# Altium footprint library Resistors THD.PcbLib: 108 footprints (part 4 of 7)
Each footprint in its own frame and in the unit in brackets; x right, y up, seen from the top. Pads: shape width x height; smd on the part's side, far side on the other; paste and mask are expansions set on the pad; w line width, h text height; cw(c..) or ccw(c..) is an arc to the next point about the centre after c.
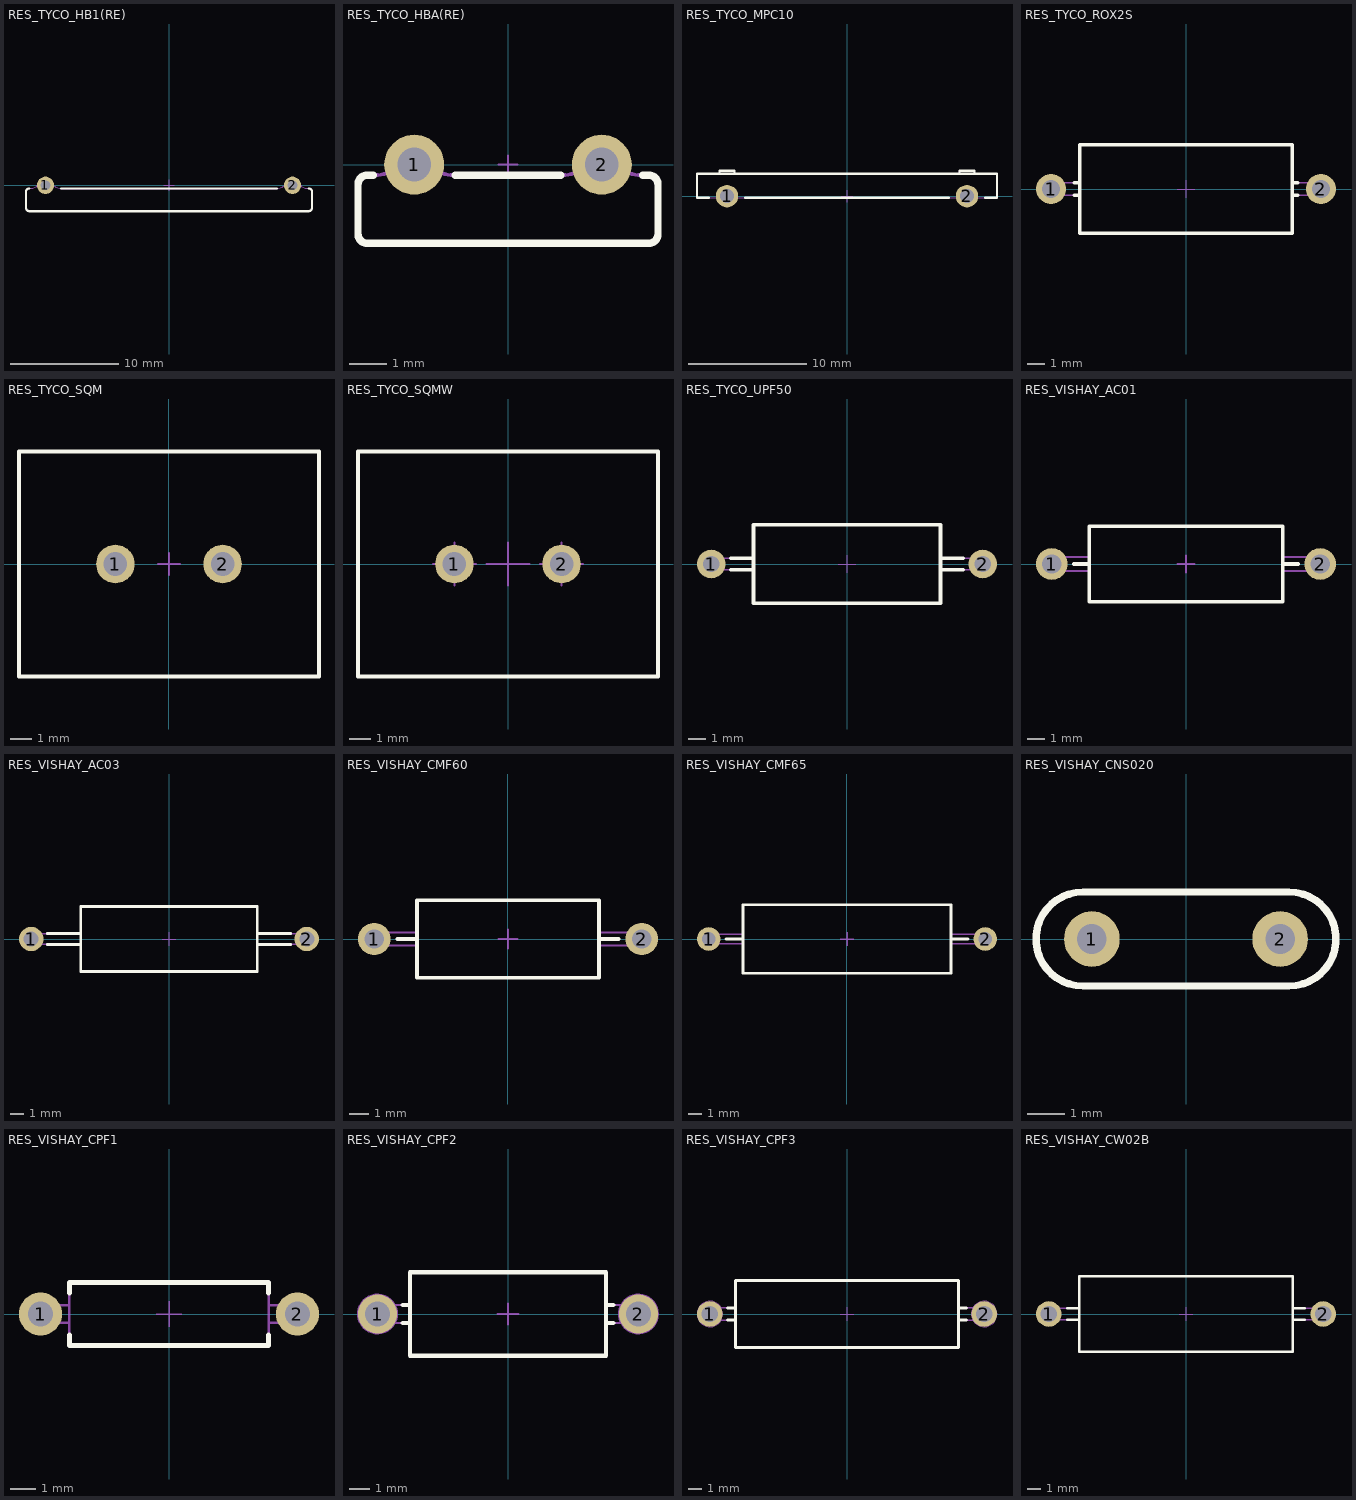
[diagram p3: the footprints below, top view; thin cyan lines are the x and y axes]

## RES_TYCO_HB1(RE) [mm] "Resistor, Radial, Leads spacing 22.9mm - Body 26.5mm X 3mm X 10.4mm H"
height 10.4
pads (2):
  round 1.6 hole 0.9: 1(-11.45,0) 2(11.45,0)
Top Overlay:
  lines w0.2: -12.95,-0.3 ccw(c-12.95,-0.6) -13.25,-0.6 -13.25,-2.1 ccw(c-12.95,-2.1) -12.95,-2.4 12.95,-2.4 ccw(c12.95,-2.1) 13.25,-2.1 13.25,-0.6 ccw(c12.95,-0.6) 12.95,-0.3 ; -10.011,-0.3 10.011,-0.3
Mechanical 8:
  lines w0.1: -11.95,0 -11.45,0 ; -11.45,-0.5 -11.45,0 ; -11.45,0.5 -11.45,0 ; -10.95,0 -11.45,0 ; -0.5,0 0,0 ; 0,-0.5 0,0 ; 0,0.5 0,0 ; 0.5,0 0,0 ; 10.95,0 11.45,0 ; 11.45,-0.5 11.45,0 ; 11.45,0.5 11.45,0 ; 11.95,0 11.45,0
Mechanical 14:
  lines w0.1: 11.983,0.259 ccw(c11.446,0.007) 10.91,0.263 cw(c10.011,0.7) 10.011,-0.3 -10.011,-0.3 cw(c-10.011,0.7) -10.91,0.263 ccw(c-11.45,0) -11.99,0.263 cw(c-12.893,0.704) -12.95,-0.3 ccw(c-12.95,-0.6) -13.25,-0.6 -13.25,-2.1 ccw(c-12.95,-2.1) -12.95,-2.4 12.95,-2.4 ccw(c12.95,-2.1) 13.25,-2.1 13.25,-0.6 ccw(c12.95,-0.6) 12.95,-0.3 cw(c12.893,0.704) 11.99,0.263
3D body "RES_TYCO_HB1(RE).stp": height 18.4, standoff -2.1, extent -13.25,-2.4 13.25,0.6

## RES_TYCO_HBA(RE) [mm] "Resistor, Radial, Leads spacing 5mm - Body 8mm X 2.6mm X 12.5mm H"
height 12.5
pads (2):
  round 1.6 hole 0.9: 1(-2.5,0) 2(2.5,0)
Top Overlay:
  lines w0.2: -3.59,-0.28 -3.75,-0.28 ccw(c-3.75,-0.53) -4,-0.53 -4,-1.85 ccw(c-3.75,-1.85) -3.75,-2.1 3.75,-2.1 ccw(c3.75,-1.85) 4,-1.85 4,-0.53 ccw(c3.75,-0.53) 3.75,-0.28 3.59,-0.28 ; -1.41,-0.28 1.41,-0.28
Mechanical 8:
  lines w0.05: -2.75,0 -2.5,0 ; -2.5,-0.25 -2.5,0 ; -2.5,0.25 -2.5,0 ; -2.25,0 -2.5,0 ; -0.25,0 0,0 ; 0,-0.25 0,0 ; 0,0.25 0,0 ; 0.25,0 0,0 ; 2.25,0 2.5,0 ; 2.5,-0.25 2.5,0 ; 2.5,0.25 2.5,0 ; 2.75,0 2.5,0
Mechanical 14:
  lines w0.1: -4,-1.85 ccw(c-3.75,-1.85) -3.75,-2.1 3.75,-2.1 ccw(c3.75,-1.85) 4,-1.85 4,-0.53 ccw(c3.75,-0.53) 3.75,-0.28 3.476,-0.28 cw(c3.476,0.22) 2.988,0.11 ccw(c2.5,0) 2.012,0.11 cw(c1.525,0.22) 1.524,-0.28 -1.525,-0.28 cw(c-1.525,0.22) -2.012,0.11 ccw(c-2.5,0) -2.988,0.11 cw(c-3.476,0.22) -3.476,-0.28 -3.75,-0.28 ccw(c-3.75,-0.53) -4,-0.53 -4,-1.85
3D body "RES_TYCO_HBA(RE).stp": height 12.5, standoff -3.1, extent -4,-2.1 4,0.5

## RES_TYCO_MPC10 [mm] "Resistor, Radial, Leads spacing 20.32mm - Body 25.4mm X 2.54mm X 27.68mm H"
height 27.68
pads (2):
  round 1.9 hole 1.2: 1(-10.16,0) 2(10.16,0)
Top Overlay:
  lines w0.2: -11.705,-0.127 -12.7,-0.127 -12.7,1.905 12.7,1.905 12.7,-0.127 11.705,-0.127 ; -10.795,1.905 -10.795,2.159 -9.525,2.159 -9.525,1.905 ; -8.615,-0.127 8.615,-0.127 ; 9.525,1.905 9.525,2.159 10.795,2.159 10.795,1.905
Mechanical 8:
  lines w0.1: -10.66,0 -10.16,0 ; -10.16,-0.5 -10.16,0 ; -10.16,0.5 -10.16,0 ; -9.66,0 -10.16,0 ; -0.5,0 0,0 ; 0,-0.5 0,0 ; 0,0.5 0,0 ; 0.5,0 0,0 ; 9.66,0 10.16,0 ; 10.16,-0.5 10.16,0 ; 10.16,0.5 10.16,0 ; 10.66,0 10.16,0
Mechanical 14:
  lines w0.1: -10.795,-0.127 -10.795,-0.381 -9.525,-0.381 -9.525,-0.127 ; -10.795,1.905 -10.795,2.159 -9.525,2.159 -9.525,1.905 ; 9.525,-0.127 9.525,-0.381 10.795,-0.381 10.795,-0.127 ; 9.525,1.905 9.525,2.159 10.795,2.159 10.795,1.905 ; -12.7,-0.127 12.7,-0.127 12.7,1.905 -12.7,1.905 -12.7,-0.127
3D body "RES_TYCO_MPC10.stp": height 27.68, standoff -3.17, extent -12.7,-0.381 12.7,2.159

## RES_TYCO_ROX2S [mm] "Resistor, Axial, Pad spacing 15.24 mm - Body Lengh 12mm X Body Diameter 5mm"
height 5
pads (2):
  round 1.7 hole 1: 1(-7.62,0) 2(7.62,0)
Top Overlay:
  lines w0.2: -6.316,-0.35 -6,-0.35 ; -6.316,0.35 -6,0.35 ; 6,-0.35 6.316,-0.35 ; 6,0.35 6.316,0.35 ; -6,-2.5 6,-2.5 6,2.5 -6,2.5 -6,-2.5
Mechanical 8:
  lines w0.05: -8.12,0 -7.62,0 ; -7.62,-0.5 -7.62,0 ; -7.62,0.5 -7.62,0 ; -7.12,0 -7.62,0 ; -0.5,0 0,0 ; 0,-0.5 0,0 ; 0,0.5 0,0 ; 0.5,0 0,0 ; 7.12,0 7.62,0 ; 7.62,-0.5 7.62,0 ; 7.62,0.5 7.62,0 ; 8.12,0 7.62,0
Mechanical 14:
  lines w0.1: -6,-0.35 -7.62,-0.35 cw(c-7.62,0) -7.62,0.35 -6,0.35 ; 6,-0.35 7.62,-0.35 ccw(c7.62,0) 7.62,0.35 6,0.35 ; -6,-2.5 6,-2.5 6,2.5 -6,2.5 -6,-2.5
3D body "RES_TYCO_ROX2S.stp": height 5, standoff -3.6, extent -7.97,-2.5 7.97,2.5

## RES_TYCO_SQM [mm] "Resistor, Radial, Leads spacing 5mm - Body 13mm X 9mm X 39mm H"
height 40
pads (2):
  round 1.8 hole 1.1: 1(-2.5,0) 2(2.5,0)
Top Overlay:
  lines w0.2: -7,-5.25 7,-5.25 7,5.25 -7,5.25 -7,-5.25
Mechanical 8:
  lines w0.1: -3,0 -2.5,0 ; -2.5,-0.5 -2.5,0 ; -2.5,0.5 -2.5,0 ; -2,0 -2.5,0 ; -0.5,0 0,0 ; 0,-0.5 0,0 ; 0,0.5 0,0 ; 0.5,0 0,0 ; 2,0 2.5,0 ; 2.5,-0.5 2.5,0 ; 2.5,0.5 2.5,0 ; 3,0 2.5,0
Mechanical 14:
  lines w0.1: -7,-5.25 7,-5.25 7,5.25 -7,5.25 -7,-5.25
3D body "RES_TYCO_SQM.stp": height 40, standoff -3.2, extent -7,-5.25 7,5.25

## RES_TYCO_SQMW [mm] "Resistor, Radial, Pad spacing 5mm - Body 14mm X 10.5mm X 40mm H"
height 40
pads (2):
  round 1.8 hole 1.1: 1(-2.5,0) 2(2.5,0)
Top Overlay:
  lines w0.2: -7,-5.25 -7,5.25 7,5.25 7,-5.25 -7,-5.25
Mechanical 8:
  lines w0.1: -3.5,0 -2.5,0 ; -2.5,-1 -2.5,0 ; -2.5,1 -2.5,0 ; -1.5,0 -2.5,0 ; -1,0 0,0 ; 0,-1 0,0 ; 0,1 0,0 ; 1,0 0,0 ; 1.5,0 2.5,0 ; 2.5,-1 2.5,0 ; 2.5,1 2.5,0 ; 3.5,0 2.5,0
Mechanical 14:
  lines w0.1: -7,-5.25 -7,5.25 7,5.25 7,-5.25 -7,-5.25
3D body "RES_TYCO_SQMW.stp": height 40, standoff -3.5, extent -7,-5.25 7,5.25

## RES_TYCO_UPF50 [mm] "Resistor, Axial, Pad spacing 15.24 mm - Body Lengh 10.5mm X Body Diameter 4.4mm"
height 4.4
pads (2):
  round 1.6 hole 0.9: 1(-7.62,0) 2(7.62,0)
Top Overlay:
  lines w0.2: -6.517,-0.325 -5.25,-0.325 ; -6.517,0.325 -5.25,0.325 ; 5.25,-0.325 6.517,-0.325 ; 5.25,0.325 6.517,0.325 ; -5.25,-2.2 -5.25,2.2 5.25,2.2 5.25,-2.2 -5.25,-2.2
Mechanical 8:
  lines w0.05: -8.12,0 -7.62,0 ; -7.62,-0.5 -7.62,0 ; -7.62,0.5 -7.62,0 ; -7.12,0 -7.62,0 ; -0.5,0 0,0 ; 0,-0.5 0,0 ; 0,0.5 0,0 ; 0.5,0 0,0 ; 7.12,0 7.62,0 ; 7.62,-0.5 7.62,0 ; 7.62,0.5 7.62,0 ; 8.12,0 7.62,0
Mechanical 14:
  lines w0.1: -5.25,-0.325 -7.62,-0.325 cw(c-7.62,0) -7.62,0.325 -5.25,0.325 ; 5.25,-0.325 7.62,-0.325 ccw(c7.62,0) 7.62,0.325 5.25,0.325 ; -5.25,-2.2 -5.25,2.2 5.25,2.2 5.25,-2.2 -5.25,-2.2
3D body "RES_TYCO_UPF50.stp": height 4.4, standoff -3.6, extent -7.945,-2.2 7.945,2.2

## RES_VISHAY_AC01 [mm] "Resistor, Axial, Pad spacing 15.24 mm - Body Lengh 11mm X Body Diameter 4.3mm"
height 4.3
pads (2):
  round 1.8 hole 1.1: 1(-7.62,0) 2(7.62,0)
Top Overlay:
  lines w0.2: -6.383,0 -5.5,0 ; 5.5,0 6.383,0 ; -5.5,-2.15 5.5,-2.15 5.5,2.15 -5.5,2.15 -5.5,-2.15
Mechanical 8:
  lines w0.1: -8.12,0 -7.62,0 ; -7.62,-0.5 -7.62,0 ; -7.62,0.5 -7.62,0 ; -7.12,0 -7.62,0 ; -0.5,0 0,0 ; 0,-0.5 0,0 ; 0,0.5 0,0 ; 0.5,0 0,0 ; 7.12,0 7.62,0 ; 7.62,-0.5 7.62,0 ; 7.62,0.5 7.62,0 ; 8.12,0 7.62,0
Mechanical 14:
  lines w0.1: -5.5,-0.4 -7.62,-0.4 cw(c-7.62,0) -7.62,0.4 -5.5,0.4 ; 5.5,-0.4 7.62,-0.4 ccw(c7.62,0) 7.62,0.4 5.5,0.4 ; -5.5,-2.15 5.5,-2.15 5.5,2.15 -5.5,2.15 -5.5,-2.15
3D body "RES_VISHAY_AC01.stp": height 4.3, standoff -3.8, extent -8.02,-2.15 8.02,2.15

## RES_VISHAY_AC03 [mm] "Resistor, Axial, Pad spacing 20.32mm - Body Lengh 13mm X Body Diameter 4.8mm"
height 4.8
pads (2):
  round 1.8 hole 1.1: 1(-10.16,0) 2(10.16,0)
Top Overlay:
  lines w0.2: -8.976,-0.4 -6.5,-0.4 ; -8.976,0.4 -6.5,0.4 ; 6.5,-0.4 8.976,-0.4 ; 6.5,0.4 8.976,0.4 ; -6.5,-2.4 6.5,-2.4 6.5,2.4 -6.5,2.4 -6.5,-2.4
Mechanical 8:
  lines w0.05: -10.66,0 -10.16,0 ; -10.16,-0.5 -10.16,0 ; -10.16,0.5 -10.16,0 ; -9.66,0 -10.16,0 ; -0.5,0 0,0 ; 0,-0.5 0,0 ; 0,0.5 0,0 ; 0.5,0 0,0 ; 9.66,0 10.16,0 ; 10.16,-0.5 10.16,0 ; 10.16,0.5 10.16,0 ; 10.66,0 10.16,0
Mechanical 14:
  lines w0.1: -6.5,-0.4 -10.16,-0.4 cw(c-10.16,0) -10.16,0.4 -6.5,0.4 ; 6.5,-0.4 10.16,-0.4 ccw(c10.16,0) 10.16,0.4 6.5,0.4 ; -6.5,-2.4 6.5,-2.4 6.5,2.4 -6.5,2.4 -6.5,-2.4
3D body "RES_VISHAY_AC03.stp": height 4.8, standoff -3.5, extent -10.56,-2.4 10.56,2.4

## RES_VISHAY_CMF60 [mm] "Resistor, Axial, Pad spacing 13 mm - Body Lengh 8.74mm X Body Diameter 3.68mm"
height 4.06
pads (2):
  round 1.7 hole 1: 1(-7,0) 2(7,0)
Top Overlay:
  lines w0.2: -5.799,0 -4.765,0 ; 4.765,0 5.799,0 ; -4.765,-2.03 4.765,-2.03 4.765,2.03 -4.765,2.03 -4.765,-2.03
Mechanical 8:
  lines w0.1: -7.5,0 -7,0 ; -7,-0.5 -7,0 ; -7,0.5 -7,0 ; -6.5,0 -7,0 ; -0.5,0 0,0 ; 0,-0.5 0,0 ; 0,0.5 0,0 ; 0.5,0 0,0 ; 6.5,0 7,0 ; 7,-0.5 7,0 ; 7,0.5 7,0 ; 7.5,0 7,0
Mechanical 14:
  lines w0.1: -4.765,-0.345 -7,-0.345 cw(c-7,0) -7,0.345 -4.765,0.345 ; 4.765,-0.345 7,-0.345 ccw(c7,0) 7,0.345 4.765,0.345 ; -4.765,-2.03 4.765,-2.03 4.765,2.03 -4.765,2.03 -4.765,-2.03
3D body "RES_VISHAY_CMF60.stp": height 4.06, standoff -3.6, extent -7.345,-2.019 7.345,2.019

## RES_VISHAY_CMF65 [mm] "Resistor, Axial, Pad spacing 13 mm - Body Lengh 14.27mm X Body Diameter 4.57mm"
height 4.06
pads (2):
  round 1.7 hole 1: 1(-10,0) 2(10,0)
Top Overlay:
  lines w0.2: -8.75,0 -7.53,0 ; 7.53,0 8.75,0 ; -7.53,-2.475 7.53,-2.475 7.53,2.475 -7.53,2.475 -7.53,-2.475
Mechanical 8:
  lines w0.1: -10.5,0 -10,0 ; -10,-0.5 -10,0 ; -10,0.5 -10,0 ; -9.5,0 -10,0 ; -0.5,0 0,0 ; 0,-0.5 0,0 ; 0,0.5 0,0 ; 0.5,0 0,0 ; 9.5,0 10,0 ; 10,-0.5 10,0 ; 10,0.5 10,0 ; 10.5,0 10,0
Mechanical 14:
  lines w0.1: -7.53,-0.345 -10,-0.345 cw(c-10,0) -10,0.345 -7.53,0.345 ; 7.53,-0.345 10,-0.345 ccw(c10,0) 10,0.345 7.53,0.345 ; -7.53,-2.475 7.53,-2.475 7.53,2.475 -7.53,2.475 -7.53,-2.475
3D body "RES_VISHAY_CMF65.stp": height 4.95, standoff -3.6, extent -10.345,-2.475 10.345,2.475

## RES_VISHAY_CNS020 [mm] "Resistor, Radial, Pad spacing 5.08mm - Body 8.1mm x 2.54mm"
height 6.62
pads (2):
  round 1.5 hole 0.8: 1(-2.54,0) 2(2.54,0)
Top Overlay:
  lines w0.2: -2.78,-1.27 cw(c-2.78,0) -2.78,1.27 2.78,1.27 cw(c2.78,0) 2.78,-1.27 -2.78,-1.27
Mechanical 14:
  lines w0.1: -2.78,-1.27 cw(c-2.78,0) -2.78,1.27 2.78,1.27 cw(c2.78,0) 2.78,-1.27 -2.78,-1.27
3D body "RES_VISHAY_CNS020.stp": height 6.62, standoff -3.6, extent -4.05,-1.27 4.05,1.27

## RES_VISHAY_CPF1 [mm] "Resistor, Axial, Pad spacing 10.16mm - Body Lengh 7.87mm X Body Diameter 2.5mm"
height 2.5
pads (2):
  round 1.7 hole 1: 1(-5.08,0) 2(5.08,0)
Top Overlay:
  lines w0.2: -3.935,-0.835 -3.935,-1.25 3.935,-1.25 3.935,-0.835 ; -3.935,0.835 -3.935,1.25 3.935,1.25 3.935,0.835
Mechanical 8:
  circle w0.05: c5.08,0 r0.5
  circle w0.05: c-5.08,0 r0.5
  lines w0.05: -5.58,0 -5.08,0 ; -5.08,-0.5 -5.08,0 ; -5.08,0.5 -5.08,0 ; -4.58,0 -5.08,0 ; -0.5,0 0,0 ; 0,-0.5 0,0 ; 0,0.5 0,0 ; 0.5,0 0,0 ; 4.58,0 5.08,0 ; 5.08,-0.5 5.08,0 ; 5.08,0.5 5.08,0 ; 5.58,0 5.08,0
Mechanical 14:
  lines w0.1: -3.935,-0.345 -5.08,-0.345 cw(c-5.08,0) -5.08,0.345 -3.935,0.345 ; 3.935,-0.345 5.08,-0.345 ccw(c5.08,0) 5.08,0.345 3.935,0.345 ; -3.935,-1.25 -3.935,1.25 3.935,1.25 3.935,-1.25 -3.935,-1.25
3D body "RES_VISHAY_CPF1.stp": height 2.5, standoff -3.6, extent -5.423,-1.25 5.423,1.25

## RES_VISHAY_CPF2 [mm] "Resistor, Axial, Pad spacing 12.7mm - Body Lengh 8.74mm X Body Diameter 3.68mm"
height 4.06
pads (2):
  round 1.9 hole 1.2: 1(-6.35,0) 2(6.35,0)
Top Overlay:
  lines w0.2: -5.123,-0.43 -4.765,-0.43 ; -5.123,0.43 -4.765,0.43 ; 4.765,-0.43 5.123,-0.43 ; 4.765,0.43 5.123,0.43 ; -4.765,-2.03 4.765,-2.03 4.765,2.03 -4.765,2.03 -4.765,-2.03
Mechanical 8:
  circle w0.1: c6.35,0 r0.6
  circle w0.1: c6.35,0 r0.95
  circle w0.1: c-6.35,0 r0.6
  circle w0.1: c-6.35,0 r0.95
  lines w0.1: -6.85,0 -6.35,0 ; -6.35,-0.5 -6.35,0 ; -6.35,0.5 -6.35,0 ; -5.85,0 -6.35,0 ; -0.5,0 0,0 ; 0,-0.5 0,0 ; 0,0.5 0,0 ; 0.5,0 0,0 ; 5.85,0 6.35,0 ; 6.35,-0.5 6.35,0 ; 6.35,0.5 6.35,0 ; 6.85,0 6.35,0
Mechanical 14:
  lines w0.1: -4.765,-0.43 -6.35,-0.43 cw(c-6.35,0) -6.35,0.43 -4.765,0.43 ; 4.765,-0.43 6.35,-0.43 ccw(c6.35,0) 6.35,0.43 4.765,0.43 ; -4.765,-2.03 4.765,-2.03 4.765,2.03 -4.765,2.03 -4.765,-2.03
3D body "RES_VISHAY_CPF2.stp": height 4.06, standoff -3.6, extent -6.779,-2.03 6.779,2.03

## RES_VISHAY_CPF3 [mm] "Resistor, Axial, Pad spacing 20.32mm - Body Lengh 16.51mm X Body Diameter 4.95mm"
height 4.95
pads (2):
  round 1.9 hole 1.2: 1(-10.15,0) 2(10.15,0)
Top Overlay:
  lines w0.2: -8.85,-0.45 -8.25,-0.45 ; -8.85,0.45 -8.25,0.45 ; 8.25,-0.45 8.85,-0.45 ; 8.25,0.45 8.85,0.45 ; -8.25,-2.475 8.25,-2.475 8.25,2.475 -8.25,2.475 -8.25,-2.475
Mechanical 8:
  circle w0.05: c-10.15,0 r0.95
  circle w0.05: c-10.15,0 r0.6
  circle w0.05: c10.15,0 r0.95
  circle w0.05: c10.15,0 r0.6
  lines w0.05: -10.65,0 -10.15,0 ; -10.15,-0.5 -10.15,0 ; -10.15,0.5 -10.15,0 ; -9.65,0 -10.15,0 ; -0.5,0 0,0 ; 0,-0.5 0,0 ; 0,0.5 0,0 ; 0.5,0 0,0 ; 9.65,0 10.15,0 ; 10.15,-0.5 10.15,0 ; 10.15,0.5 10.15,0 ; 10.65,0 10.15,0
Mechanical 14:
  lines w0.1: -8.25,-0.45 -10.15,-0.45 cw(c-10.15,0) -10.15,0.45 -8.25,0.45 ; 8.25,-0.45 10.15,-0.45 ccw(c10.15,0) 10.15,0.45 8.25,0.45 ; -8.25,-2.475 8.25,-2.475 8.25,2.475 -8.25,2.475 -8.25,-2.475
3D body "RES_VISHAY_CPF3.stp": height 4.95, standoff -3.6, extent -10.597,-2.475 10.598,2.475

## RES_VISHAY_CW02B [mm] "Resistor, Axial, Pad spacing 20.32mm - Body Lengh 15.8mm X Body Diameter 5.6mm"
height 5.6
pads (2):
  round 1.9 hole 1.2: 1(-10.16,0) 2(10.16,0)
Top Overlay:
  lines w0.2: -8.8,-0.435 -7.9,-0.435 ; -8.8,0.435 -7.9,0.435 ; 7.9,-0.435 8.8,-0.435 ; 7.9,0.435 8.8,0.435 ; -7.9,-2.8 7.9,-2.8 7.9,2.8 -7.9,2.8 -7.9,-2.8
Mechanical 8:
  circle w0.05: c10.16,0 r0.6
  circle w0.05: c-10.16,0 r0.6
  lines w0.05: -10.66,0 -10.16,0 ; -10.16,-0.5 -10.16,0 ; -10.16,0.5 -10.16,0 ; -9.66,0 -10.16,0 ; -0.5,0 0,0 ; 0,-0.5 0,0 ; 0,0.5 0,0 ; 0.5,0 0,0 ; 9.66,0 10.16,0 ; 10.16,-0.5 10.16,0 ; 10.16,0.5 10.16,0 ; 10.66,0 10.16,0
Mechanical 14:
  lines w0.1: -7.9,-0.435 -10.16,-0.435 cw(c-10.16,0) -10.16,0.435 -7.9,0.435 ; 7.9,-0.435 10.16,-0.435 ccw(c10.16,0) 10.16,0.435 7.9,0.435 ; -7.9,-2.8 -7.9,2.8 7.9,2.8 7.9,-2.8 -7.9,-2.8
3D body "RES_VISHAY_CW02B.stp": height 5.6, standoff -3.6, extent -10.594,-2.8 10.595,2.8